# Altium footprint library DK_LOCK_V1.0.PcbLib: 19 footprints (part 2 of 2)
Each footprint in its own frame and in the unit in brackets; x right, y up, seen from the top. Pads: shape width x height; smd on the part's side, far side on the other; paste and mask are expansions set on the pad; w line width, h text height; cw(c..) or ccw(c..) is an arc to the next point about the centre after c.
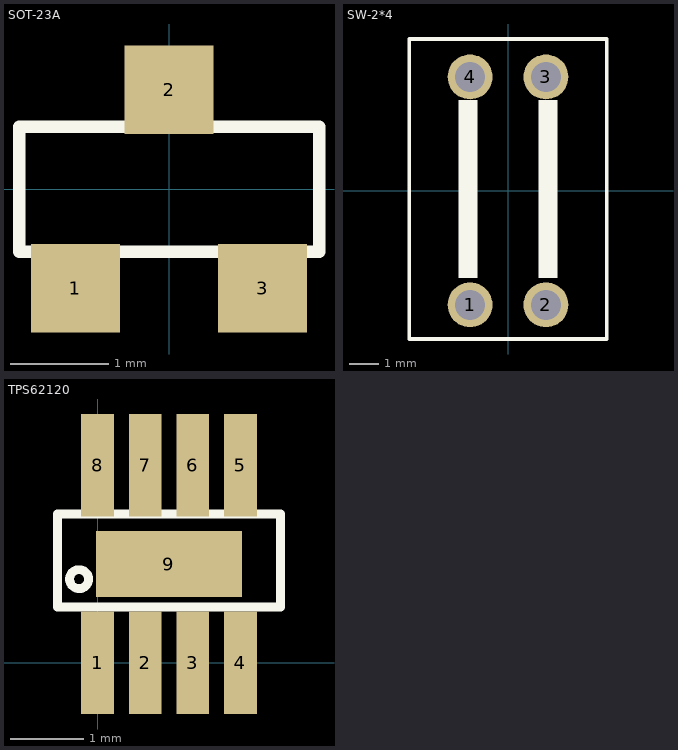
[diagram p1: the footprints below, top view; thin cyan lines are the x and y axes]

## SOT-23A [mm]
pads (3):
  rect 0.9x0.9 smd: 1(-0.95,-1.01) 2(0,1.01) 3(0.95,-1.01)
Top Overlay:
  lines w0.127: -1.524,-0.635 1.524,-0.635 1.524,0.635 -1.524,0.635 -1.524,-0.635

## SW-2*4 [mm]
pads (4):
  round 1.5 hole 1: 1(-1.27,-3.81) 2(1.27,-3.81) 3(1.27,3.81) 4(-1.27,3.81)
Top Overlay:
  rectangle: -1.651,-2.921 -1.016,3.048
  rectangle: 1.016,-2.921 1.651,3.048
  lines w0.127: -3.302,-4.953 3.302,-4.953 3.302,5.08 -3.302,5.08 -3.302,-4.953

## TPS62120 [mm]
pads (9):
  rect 0.45x1.4 smd: 1(0,0) 2(0.65,0) 3(1.3,0) 4(1.95,0) 5(1.95,2.7) 6(1.3,2.7) 7(0.65,2.7) 8(0,2.7)
  rect 2x0.9 smd: 9(0.975,1.35)
Top Overlay:
  circle w0.12: c-0.254,1.143 r0.13
  lines w0.127: -0.549,0.762 -0.549,2.032 2.499,2.032 2.499,0.762 -0.549,0.762